# Altium schematic symbol library Virtex.SchLib: 67 symbols (part 2 of 2)
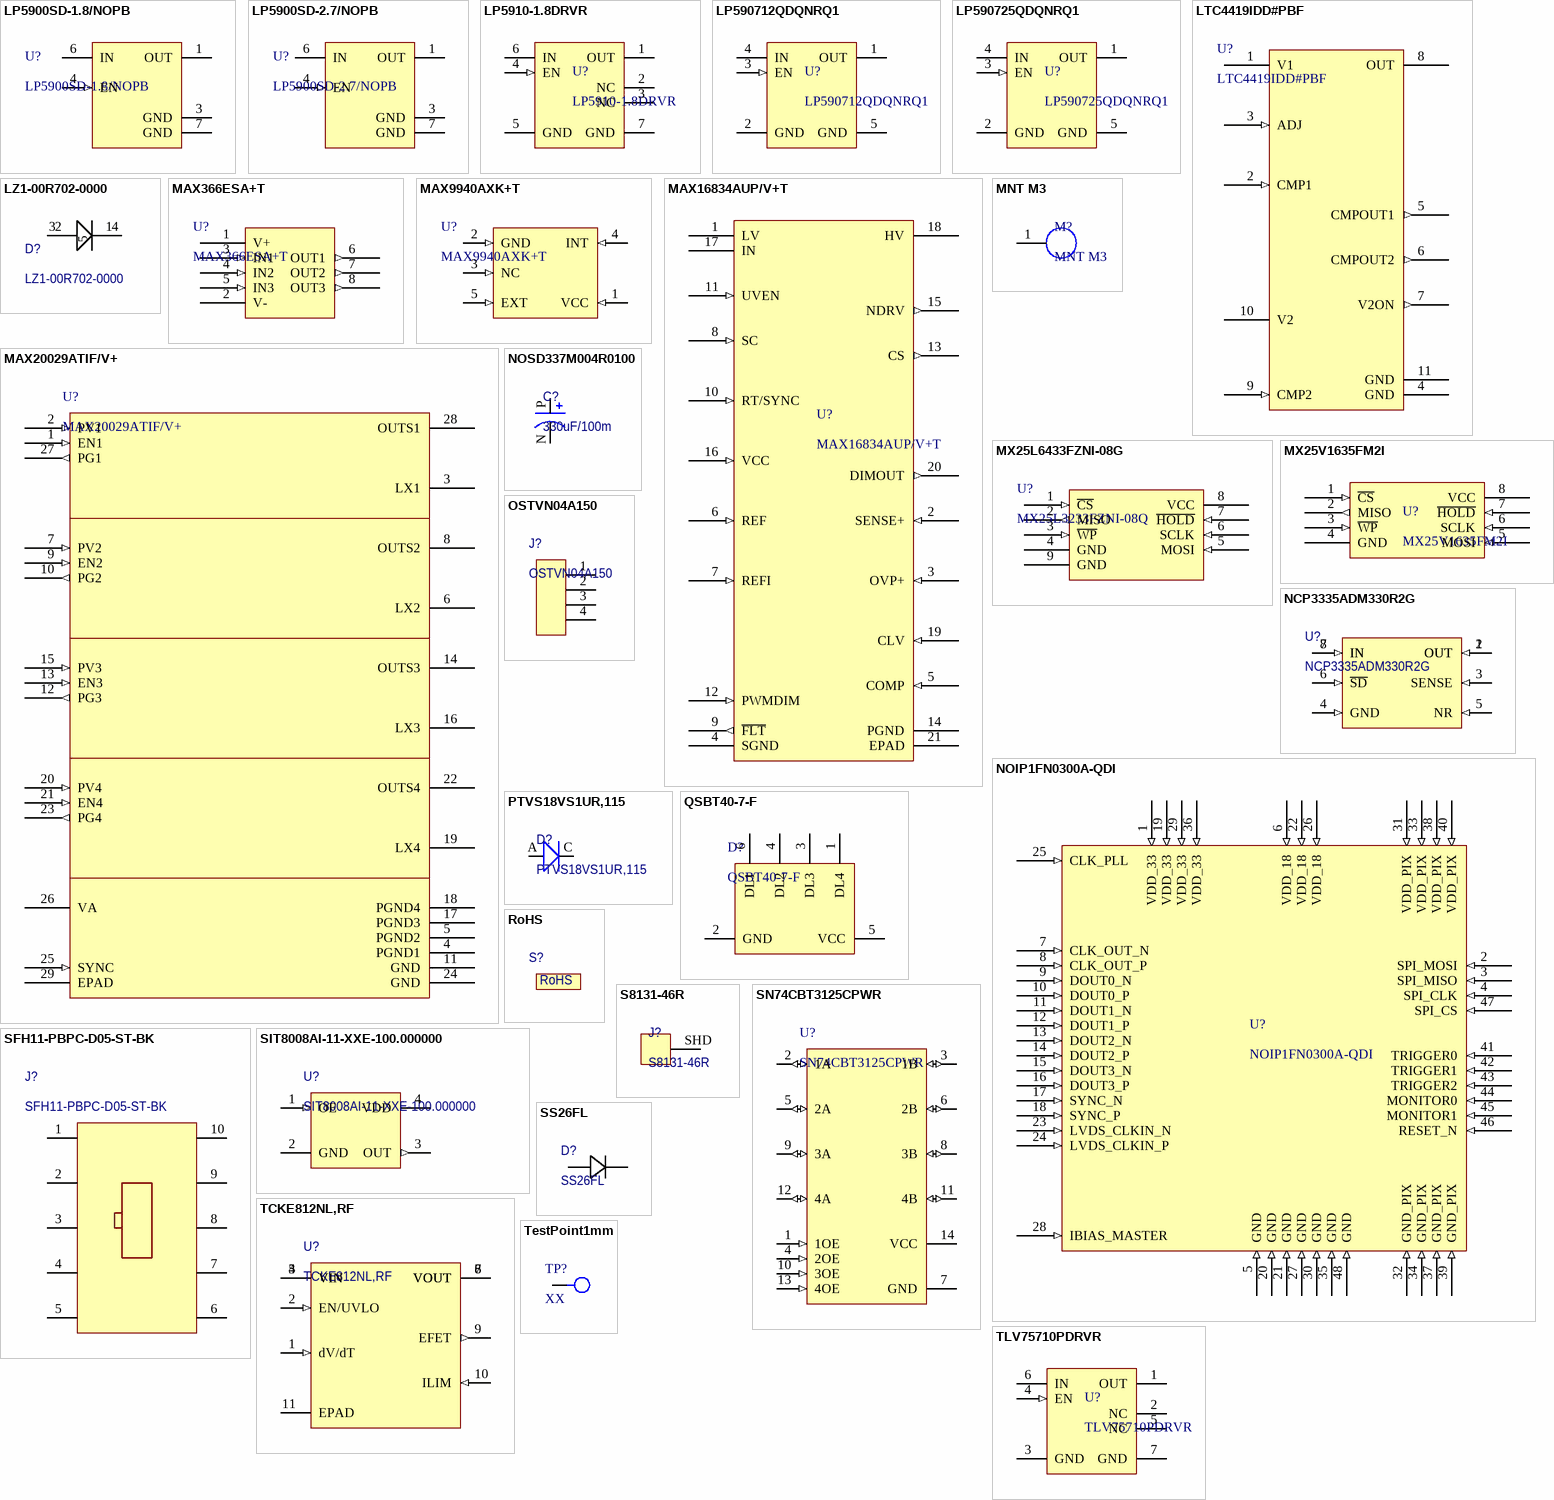
[diagram p3: symbols LP5900SD-1.8/NOPB to TLV75710PDRVR]

## MAX16834AUP/V+T
designator U?
IC LED DRVR HIGH BRIGHT 20-TSSOP; Manufacturer: Maxim; Manufacturer Part Number: MAX16834AUP+; Max Power Dissipation: 2.122W; Number of Segments: 100; Operating Supply Voltage: 28V; Number of Outputs: 1; Max Supply Current: 6mA; Topology: SEPIC; Frequency: 1MHz; Output Current: 3A; Min Input Voltage: 4.75V; Supplier 1: Digi-Key; RoHS: Yes; Category: LED Drivers; Stock 1: 756; Pricing 1: 1=6.28000, 10=5.67600, 25=5.41200, 100=4.69920, 250=4.48800, 500=4.09200, 1000=3.96000 (USD); Mount: Surface Mount; Case/Package: TSSOP; Number of Pins: 20; Contact Plating: Tin,Matte; Min Operating Temperature: -40°C; Max Operating Temperature: 125°C; Package Quantity: 74; Packaging: Rail/Tube; Power Dissipation: 2.122W; Series: -; Max Input Voltage: 28V; Switching Frequency: 1MHz; Radiation Hardening: No; RoHS Compliant: Yes; REACH SVHC: Unknown; ComponentLink1URL: https://datasheet.ciiva.com/1946/max16834-1946936.pdf?src-supplier=Digi-Key; ComponentLink1Description: https://datasheet.ciiva.com/1946/max16834-1946936.pdf?src-supplier=Digi-Key; ComponentLink2URL: https://datasheet.ciiva.com/17300/max16834-17300234.pdf?src-supplier=Avnet+Europe; ComponentLink2Description: https://datasheet.ciiva.com/17300/max16834-17300234.pdf?src-supplier=Avnet+Europe; Supplier Part Number 1: MAX16834AUP+-ND; Supplier 2: Avnet; Stock 2: 60000; Pricing 2: 2500=4.44310, 5000=4.38030, 10000=4.31750, 15000=4.25470, 20000=4.19190, 25000=4.12910, 250000=4.06630 (USD); ComponentLink3URL: https://datasheet.ciiva.com/12277/max16834-97839-12277202.pdf?src-supplier=Mouser; ComponentLink3Description: https://datasheet.ciiva.com/12277/max16834-97839-12277202.pdf?src-supplier=Mouser; ComponentLink4URL: https://datasheet.ciiva.com/3163/max16834-3163925.pdf?src-supplier=Avnet; ComponentLink4Description: https://datasheet.ciiva.com/3163/max16834-3163925.pdf?src-supplier=Avnet; ComponentLink5URL: https://datasheet.ciiva.com/1948/max16834-1948686.pdf?src-supplier=Digi-Key; ComponentLink5Description: https://datasheet.ciiva.com/1948/max16834-1948686.pdf?src-supplier=Digi-Key; Supplier Part Number 2: MAX16834AUP/V+T
footprint MAX16834AUPV+T
pins: 1 LV (power), 2 SENSE+ (in), 3 OVP+ (in), 4 SGND (power), 5 COMP (in), 6 REF (in), 7 REFI (in), 8 SC (in), 9 ~{FLT} (out), 10 RT/SYNC (in), 11 UVEN (in), 12 PWMDIM (in), 13 CS (out), 14 PGND (power), 15 NDRV (out), 16 VCC (in), 17 IN (power), 18 HV (power), 19 CLV (in), 20 DIMOUT (out), 21 EPAD (power)

## MAX20029ATIF/V+
designator U?
DC to DC Converter Quad Step-Down 3V to 5.5V Automotive 28-Pin TQFN Tube; Mfr_Name: Maxim Integrated Products; Manufacturer: Maxim; Copyright: Copyright (C) 2022 Ultra Librarian. All rights reserved.; Manufacturer_Part_Number: MAX20029ATIF/V+; RefDes: RefDes; Type: DEV; Supplier 1: Mouser; Manufacturer Part Number: MAX20029ATIF/V+; RoHS: Yes; Stock 1: 121; Pricing 1: 1=3.71000, 10=3.34000, 25=3.15000, 50=3.15000, 100=3.15000, 120=2.72000, 300=2.64000, 540=2.41000, 1000=2.41000, 1020=2.29000, 2520=2.25000, 10000=2.25000 (USD); Supplier Part Number 1: 700-MAX20029ATIF/V+
footprint MAX20029ATIF/V+
pins: 1 EN1 (in), 2 PV1 (in), 3 LX1 (power), 4 PGND1 (power), 5 PGND2 (power), 6 LX2 (power), 7 PV2 (in), 8 OUTS2 (power), 9 EN2 (in), 10 PG2 (out), 11 GND (power), 12 PG3 (out), 13 EN3 (in), 14 OUTS3 (power), 15 PV3 (in), 16 LX3 (power), 17 PGND3 (power), 18 PGND4 (power), 19 LX4 (power), 20 PV4 (in), 21 EN4 (in), 22 OUTS4 (power), 23 PG4 (out), 24 GND (power), 25 SYNC (in), 26 VA (power), 27 PG1 (out), 28 OUTS1 (power), 29 EPAD

## MNT M3
designator M?
Mounting hole for an M3 bolt
footprint MNT M3
pins: 1

## MX25L6433FZNI-08G
designator U?, comment MX25L3233FZNI-08Q
IC Flash Serial Nor 64MBIT 8WSON; Manufacturer: Macronix; Manufacturer Part Number: MX25L6433FZNI-08G; RoHS: Yes; Stock 1: 2606; Pricing 1: 1=0.75000, 10=0.68700, 25=0.67880, 40=0.67450, 80=0.60313, 230=0.59804, 570=0.58923, 1140=0.56814, 5130=0.51748 (USD); RoHS Compliant: No; Category: Memory; Supplier 1: Digi-Key; Supplier Part Number 1: MX25L6433FZNI-08G-ND
footprint MX25L6433FZNI-08G
pins: 1 ~{CS} (in), 2 MISO (out), 3 ~{WP} (in), 4 GND (power), 5 MOSI (in), 6 SCLK (in), 7 ~{HOLD} (in), 8 VCC (power), 9 GND (power)

## MX25V1635FM2I
designator U?
IC FLASH 16M SPI 80MHZ 8SOP; Manufacturer: Macronix; Memory Type: FLASH,NOR; Interface: SPI,Serial; Supplier 1: Digi-Key; Manufacturer Part Number: MX25V1635FM2I; RoHS: Yes; Category: Memory; Stock 1: 14366; Pricing 1: 1=0.71000, 10=0.64700, 25=0.63880, 50=0.63480, 100=0.56770, 250=0.56288, 500=0.55456, 1000=0.53472, 5000=0.48704 (USD); Case/Package: SOIC; Min Operating Temperature: -40°C; Max Operating Temperature: 85°C; Packaging: Rail/Tube; Frequency: 80MHz; Lead Free: Lead Free; RoHS Compliant: Yes; ComponentLink1URL: http://ckassoc.com/oldsite/pdf/Macronix_Product_Line_Card_July_2017_General%20_070617.pdf?src-supplier=Digi-Key; ComponentLink1Description: http://ckassoc.com/oldsite/pdf/Macronix_Product_Line_Card_July_2017_General%20_070617.pdf?src-supplier=Digi-Key; Supplier Part Number 1: 1092-1189-ND
footprint MX25V1635FM2I
pins: 1 ~{CS} (in), 2 MISO (out), 3 ~{WP} (in), 4 GND (power), 5 MOSI (in), 6 SCLK (in), 7 ~{HOLD} (in), 8 VCC (power)

## NCP3335ADM330R2G
designator U?
Linear Voltage Regulator, LDO, Ultra High Accuracy, Low Iq, 500 mA, V out : 3.3 V; Manufacturer: ON Semiconductor; Min Input Voltage: 2.6V; Max Input Voltage: 16V; Output Voltage: 3.3V; Number of Outputs: 1; Max Output Current: 800mA; Polarity: Positive; Accuracy: 0.9%; Output Type: Fixed; Dropout Voltage: 340mV; Reference Voltage: 1.269V; Supplier 1: Arrow Electronics; Manufacturer Part Number: NCP3335ADM330R2G; RoHS: Yes; Category: Voltage Regulators - Linear; Stock 1: 3509; Pricing 1: 1=1.27050, 10=1.10060, 25=0.93500, 100=0.82150, 250=0.81330, 500=0.66300, 1000=0.61180, 3000=0.57730 (USD); Mount: Surface Mount; Case/Package: MSOP; Number of Pins: 8; Min Operating Temperature: -40°C; Max Operating Temperature: 150°C; Package Quantity: 4000; Output Current: 800mA; Packaging: Tape and Reel; Number of Regulators: 1; Min Output Voltage: 3.3V; Output Voltage Accuracy: 0.9%; Length: 3.1mm; Width: 3.1mm; Height: 0.95mm; Radiation Hardening: No; Lead Free: Lead Free; Halogen Free: Halogen Free; RoHS Compliant: Yes; ComponentLink1URL: https://datasheet.ciiva.com/30476/0900766b8124f876-30476966.pdf?src-supplier=RSComponents; ComponentLink1Description: https://datasheet.ciiva.com/30476/0900766b8124f876-30476966.pdf?src-supplier=RSComponents; ComponentLink2URL: https://datasheet.ciiva.com/2061/ncp3335a-d-2061837.pdf?src-supplier=Digi-Key; ComponentLink2Description: https://datasheet.ciiva.com/2061/ncp3335a-d-2061837.pdf?src-supplier=Digi-Key; ComponentLink3URL: https://datasheet.ciiva.com/2061/ncp3335a-d-2061838.pdf?src-supplier=Digi-Key; ComponentLink3Description: https://datasheet.ciiva.com/2061/ncp3335a-d-2061838.pdf?src-supplier=Digi-Key; ComponentLink4URL: https://datasheet.ciiva.com/16390/ncp3335a-d-16390281.pdf?src-supplier=Future+Electronics; ComponentLink4Description: https://datasheet.ciiva.com/16390/ncp3335a-d-16390281.pdf?src-supplier=Future+Electronics; Supplier Part Number 1: NCP3335ADM330R2G
footprint NCP3335ADM330R2G
pins: 1 OUT (in), 2 OUT (in), 3 SENSE (in), 4 GND (in), 5 NR (in), 6 ~{SD} (in), 7 IN (in), 8 IN (in)

## NOIP1FN0300A-QDI
designator U?
IC IMAGE SENSOR 0.3MP 48LCC; Manufacturer: ON Semiconductor; Operating Supply Voltage: 3.4V; Supplier 1: Avnet; Manufacturer Part Number: NOIP1FN0300A-QDI; RoHS: Yes; Category: Optoelectronics; Pricing 1: 6=58.23675, 8=57.37875, 20=56.62800, 30=55.87725, 60=55.12650, 300=53.83950, 600=53.41050 (USD); Mount: Surface Mount; Case/Package: LCC; Number of Pins: 48; Min Operating Temperature: -40°C; Max Operating Temperature: 85°C; Lead Free: Lead Free; RoHS Compliant: Yes; ComponentLink1URL: http://www.onsemi.com/pub_link/Collateral/PB_NOIP1SN1300A-D.PDF?src-supplier=Digi-Key; ComponentLink1Description: http://www.onsemi.com/pub_link/Collateral/PB_NOIP1SN1300A-D.PDF?src-supplier=Digi-Key; ComponentLink2URL: http://www.onsemi.com/pub_link/Collateral/NOIP1SN1300A-D.PDF?src-supplier=Avnet+Asia; ComponentLink2Description: http://www.onsemi.com/pub_link/Collateral/NOIP1SN1300A-D.PDF?src-supplier=Avnet+Asia; Supplier Part Number 1: NOIP1FN0300A-QDI
footprint NOIP1FN0300A-QDI
pins: 1 VDD_33 (in), 2 SPI_MOSI (in), 3 SPI_MISO (in), 4 SPI_CLK (in), 5 GND (in), 6 VDD_18 (in), 7 CLK_OUT_N (in), 8 CLK_OUT_P (in), 9 DOUT0_N (in), 10 DOUT0_P (in), 11 DOUT1_N (in), 12 DOUT1_P (in), 13 DOUT2_N (in), 14 DOUT2_P (in), 15 DOUT3_N (in), 16 DOUT3_P (in), 17 SYNC_N (in), 18 SYNC_P (in), 19 VDD_33 (in), 20 GND (in), 21 GND (in), 22 VDD_18 (in), 23 LVDS_CLKIN_N (in), 24 LVDS_CLKIN_P (in), 25 CLK_PLL (in), 26 VDD_18 (in), 27 GND (in), 28 IBIAS_MASTER (in), 29 VDD_33 (in), 30 GND (in), 31 VDD_PIX (in), 32 GND_PIX (in), 33 VDD_PIX (in), 34 GND_PIX (in), 35 GND (in), 36 VDD_33 (in), 37 GND_PIX (in), 38 VDD_PIX (in), 39 GND_PIX (in), 40 VDD_PIX (in), 41 TRIGGER0 (in), 42 TRIGGER1 (in), 43 TRIGGER2 (in), 44 MONITOR0 (in), 45 MONITOR1 (in), 46 RESET_N (in), 47 SPI_CS (in), 48 GND (in)

## NOSD337M004R0100
designator C?, comment 330uF/100m
330uF +/-20% 4 V dc SMD Niobium Capacitor; 7343-31 package; ESR 0.1Ohms NOS; Manufacturer: Kyocera AVX; Manufacturer Part Number: NOSD337M004R0100; Dielectric Material: Tantalum; Voltage Rating: 4V; Tolerance: 20%; ESR (Equivalent Series Resistance): 100mR; Ripple Current: 1.342A; Dissipation Factor: 8%; Leakage Current: 26.4uA; Supplier 1: Arrow Electronics; RoHS: Yes; Category: Capacitors; Stock 1: 523; Pricing 1: 1=0.86820, 10=0.76450, 25=0.75680, 100=0.63080, 250=0.62450, 500=0.53480 (USD); Mount: Surface Mount; Case/Package: 2917; Case Code (Metric): 7343; Case Code (Imperial): 2917; Min Operating Temperature: -55°C; Max Operating Temperature: 125°C; Package Quantity: 500; Capacitance: 330uF; Packaging: Tape and Reel; Termination: SMD/SMT; Voltage: 4V; Series: NOS; Construction: Flat; Length: 7.3mm; Width: 4.3mm; Height: 2.9mm; Height - Seated (Max): 0.122inch; Depth: 4.3mm; Radiation Hardening: No; REACH SVHC: No SVHC; Lead Free: Lead Free; RoHS Compliant: Yes; ComponentLink1URL: https://datasheet.ciiva.com/257/nos-257040.pdf?src-supplier=Digi-Key; ComponentLink1Description: https://datasheet.ciiva.com/257/nos-257040.pdf?src-supplier=Digi-Key; ComponentLink2URL: https://datasheet.ciiva.com/11790/0900766b8070be5a-11790395.pdf?src-supplier=RSComponents; ComponentLink2Description: https://datasheet.ciiva.com/11790/0900766b8070be5a-11790395.pdf?src-supplier=RSComponents; ComponentLink3URL: https://datasheet.ciiva.com/257/nos-257041.pdf?src-supplier=Digi-Key; ComponentLink3Description: https://datasheet.ciiva.com/257/nos-257041.pdf?src-supplier=Digi-Key; ComponentLink4URL: https://datasheet.ciiva.com/257/nos-257042.pdf?src-supplier=Digi-Key; ComponentLink4Description: https://datasheet.ciiva.com/257/nos-257042.pdf?src-supplier=Digi-Key; ComponentLink5URL: https://datasheet.ciiva.com/2998/nos-2998262.pdf?src-supplier=Avnet; ComponentLink5Description: https://datasheet.ciiva.com/2998/nos-2998262.pdf?src-supplier=Avnet; ComponentLink6URL: https://datasheet.ciiva.com/29882/nos-29882333.pdf?src-supplier=Avnet; ComponentLink6Description: https://datasheet.ciiva.com/29882/nos-29882333.pdf?src-supplier=Avnet; ComponentLink7URL: https://datasheet.ciiva.com/1460/49917-1460418.pdf?src-supplier=Element14; ComponentLink7Description: https://datasheet.ciiva.com/1460/49917-1460418.pdf?src-supplier=Element14; ComponentLink8URL: https://datasheet.ciiva.com/1460/49917-1460419.pdf?src-supplier=Element14; ComponentLink8Description: https://datasheet.ciiva.com/1460/49917-1460419.pdf?src-supplier=Element14; Supplier Part Number 1: NOSD337M004R0100
footprint NOSD337M004R0100 (Molded Capacitor, 2-Leads, Body 7.30x4.35mm, IPC Medium Density)
pins: N, P

## OSTVN04A150
designator J?
TERM BLK 4P SIDE ENT 2.54MM PCB; Manufacturer: On-Shore Technology; Plating: Brass,Steel; Number of Levels: 1; Number of Positions Per Level: 4; Current: 6A; Voltage: 125V; Wire Gauge (Max): 30AWG; Wire Gauge (Min): 20AWG; Pitch: 0.1inch; Supplier 1: Digi-Key; Manufacturer Part Number: OSTVN04A150; RoHS: Yes; Category: Terminal Blocks; Stock 1: 9682; Pricing 1: 1=1.45000, 10=1.01800, 25=0.94920, 50=0.86140, 100=0.85760, 250=0.72420, 500=0.68608, 1000=0.60984, 5000=0.50820 (USD); Mount: Through Hole; Number of Pins: 4; Color: Green; Contact Plating: Brass; Housing Material: Thermoplastic; Min Operating Temperature: -30°C; Max Operating Temperature: 105°C; Packaging: Bulk; Termination: Screw; Series: OSTVN; RoHS Compliant: Yes; ComponentLink1URL: https://datasheet.ciiva.com/823/ostvnxxa150-823966.pdf?src-supplier=Digi-Key; ComponentLink1Description: https://datasheet.ciiva.com/823/ostvnxxa150-823966.pdf?src-supplier=Digi-Key; Supplier Part Number 1: ED10563-ND
footprint OSTVN04A150
pins: 1, 2, 3, 4

## PTVS18VS1UR,115
designator D?
TVS DIODE 18VWM 29.2VC SOD123W; Manufacturer: Nexperia; Supplier 1: RSComponents; Manufacturer Part Number: PTVS18VS1UR,115; RoHS: Yes; Category: TVS Diodes; Stock 1: 1; Pricing 1: 40=0.38200, 200=0.20700, 800=0.19500, 2000=0.16200 (USD); RoHS Compliant: Yes; Supplier Part Number 1: 8160208
footprint PTVS18VS1UR,115 (SODFL, 2-Leads, Body 1.70x3.50mm, IPC Medium Density)
pins: A (power), C (power)

## QSBT40-7-F
designator D?
TVS DIODE 30VWM SOT363; Manufacturer: Diodes; Forward Current: 200mA; Max Reverse Current: 2uA; Forward Voltage: 1V; Max Power Dissipation: 2W; Operating Supply Voltage: 30V; Number of Bidirectional Channels: 4; Power Line Protection: No; Reverse Recovery Time: 5ns; Peak Non-Repetitive Surge Current: 600mA; Power Dissipation: 200mW; Supplier 1: RSComponents; Manufacturer Part Number: QSBT40-7-F; RoHS: Yes; Category: Schottky Diodes; Stock 1: 1; Pricing 1: 10=1.12300, 30=0.92500, 150=0.80600, 750=0.71200, 1500=0.56500 (USD); Mount: Surface Mount; Case/Package: SOT-363; Number of Pins: 6; Weight: 0.000212oz; Min Operating Temperature: -55°C; Max Operating Temperature: 125°C; Package Quantity: 3000; Packaging: Tape and Reel; Reverse Standoff Voltage: 30V; Max Repetitive Reverse Voltage (Vrrm): 30V; Max Forward Surge Current (Ifsm): 600mA; Termination: SMD/SMT; Power Rating: 200mW; Voltage Rating (DC): 30V; Current Rating: 200mA; Series: -; Length: 2.2mm; Width: 1.35mm; Height: 1mm; Radiation Hardening: No; REACH SVHC: No SVHC; Lead Free: Lead Free; RoHS Compliant: Yes; ComponentLink1URL: https://datasheet.ciiva.com/34302/1541351-34302412.pdf?src-supplier=Jameco; ComponentLink1Description: https://datasheet.ciiva.com/34302/1541351-34302412.pdf?src-supplier=Jameco; ComponentLink2URL: https://datasheet.ciiva.com/4715/ds30195-18356-4715689.pdf?src-supplier=Mouser; ComponentLink2Description: https://datasheet.ciiva.com/4715/ds30195-18356-4715689.pdf?src-supplier=Mouser; ComponentLink3URL: https://datasheet.ciiva.com/336/ds30195-336560.pdf?src-supplier=Digi-Key; ComponentLink3Description: https://datasheet.ciiva.com/336/ds30195-336560.pdf?src-supplier=Digi-Key; ComponentLink4URL: https://datasheet.ciiva.com/8301/ds30195-8301644.pdf?src-supplier=Avnet; ComponentLink4Description: https://datasheet.ciiva.com/8301/ds30195-8301644.pdf?src-supplier=Avnet; ComponentLink5URL: https://datasheet.ciiva.com/16393/ds30195-16393583.pdf?src-supplier=Future+Electronics; ComponentLink5Description: https://datasheet.ciiva.com/16393/ds30195-16393583.pdf?src-supplier=Future+Electronics; Supplier Part Number 1: 7514698
footprint QSBT40-7-F
pins: 1 DL4, 2 GND (power), 3 DL3, 4 DL2, 5 VCC (power), 6 DL1

## RoHS
designator S?
footprint RoHS

## S8131-46R
designator J?
CBL CLIP C-TYPE SILVER SOLDER; Supplier 1: RSComponents; Supplier Part Number 1: 7884842P
footprint S8131-46R (Footprint not found)
pins: SHD

## SFH11-PBPC-D05-ST-BK
designator J?
Female, 10C, Straight .100"CC; No Mt. w/Center Polarizing Key; PBT, Brass, Gold Flash, 105 C; Manufacturer: Sullins; Number of Positions: 10; Connector Type: Header; Pitch: 0.1inch; Supplier 1: Digi-Key; Manufacturer Part Number: SFH11-PBPC-D05-ST-BK; RoHS: Yes; Category: Connectors; Stock 1: 44672; Pricing 1: 1=0.66000, 10=0.55300, 80=0.49700, 440=0.40661, 1000=0.36144, 5000=0.32630 (USD); Mount: Through Hole; Color: Black; Contact Plating: Gold; Package Quantity: 1; Number of Rows: 2; Packaging: Tray; Termination: Solder; Series: SFH11; Contact Type: Female Socket; Row Spacing: 0.1inch; Lead Free: Lead Free; RoHS Compliant: Yes; ComponentLink1URL: https://datasheet.ciiva.com/754/sfh11-pxxc-dxx-st-xx11160-c-754555.pdf?src-supplier=Digi-Key; ComponentLink1Description: https://datasheet.ciiva.com/754/sfh11-pxxc-dxx-st-xx11160-c-754555.pdf?src-supplier=Digi-Key; Supplier Part Number 1: S9194-ND
footprint SFH11-PBPC-D05-ST-BK (Footprint not found)
pins: 1, 2, 3, 4, 5, 6, 7, 8, 9, 10

## SIT8008AI-11-XXE-100.000000
designator U?
Oscillator MEMS 100MHz ±20ppm (Stability) 15pF HCMOS/LVCMOS 55% 2.5V/2.8V/3V/3.3V Medical 4-Pin QFN SMD T/R; Manufacturer: SiTime; Manufacturer Part Number: SIT8008AI-11-XXE-100.000000E; Max Supply Current: 4.5mA; Supplier 1: Avnet; RoHS: Yes; Category: Oscillators; Pricing 1: 1000=0.93600, 2000=0.91104, 4000=0.88608, 6000=0.86112, 8000=0.83616 (USD); Mount: Surface Mount; Case/Package: SMD/SMT; Min Operating Temperature: -40°C; Max Operating Temperature: 85°C; Packaging: Tape and Reel; Frequency: 100MHz; Frequency Stability: 20ppm; RoHS Compliant: Yes; ComponentLink1URL: https://media.digikey.com/pdf/Data%20Sheets/SiTime%20PDFs/New_Rev_FAQ.pdf?src-supplier=Digi-Key; ComponentLink1Description: https://media.digikey.com/pdf/Data%20Sheets/SiTime%20PDFs/New_Rev_FAQ.pdf?src-supplier=Digi-Key; Supplier Part Number 1: SIT8008AI-11-XXE-100.000000E
footprint SIT8008AI-11-XXE-100.000000
pins: 1 OE (in), 2 GND (power), 3 OUT (out), 4 VDD (power)

## SN74CBT3125CPWR
designator U?
5-V, 1: 1 (SPST), 4-channel FET bus switch with –2-V undershoot protection 14-TSSOP -40 to 85; Manufacturer: Texas Instruments; Nominal Supply Current: 3uA; Propagation Delay: 0.15ns; Min Supply Voltage: 4V; Operating Supply Voltage: 5V; Max Supply Voltage: 5.5V; Number of Elements: 4; On-State Resistance: 12R; High Level Output Current: -128mA; Low Level Output Current: 128mA; Turn-On Delay Time: 4.4ns; Supply Type: Single; Bandwidth: 200MHz; Output Current: 64mA; Supplier 1: Digi-Key; Manufacturer Part Number: SN74CBT3125CPWR; RoHS: Yes; Category: Decoders and Multiplexers; Stock 1: 615; Pricing 1: 1=0.71000, 10=0.62300, 25=0.58480, 100=0.47740, 250=0.44340, 500=0.37736, 1000=0.30189 (USD); Mount: Surface Mount; Case/Package: TSSOP; Number of Pins: 14; Weight: 0.002018oz; Contact Plating: Gold; Min Operating Temperature: -40°C; Max Operating Temperature: 85°C; Package Quantity: 1; Packaging: Tape and Reel; Number of Bits: 4; Quiescent Current: 3uA; Independent Circuits: 4; Number of Channels: 4; Number of Switches: 4; Series: 74CBT; Supply Current: 3uA; Technology: CMOS; Throw Configuration: SPST; Radiation Hardening: No; Lead Free: Lead Free; RoHS Compliant: Yes; ComponentLink1URL: https://datasheet.ciiva.com/15097/getdatasheetpartid-526189-15097058.pdf?src-supplier=Verical; ComponentLink1Description: https://datasheet.ciiva.com/15097/getdatasheetpartid-526189-15097058.pdf?src-supplier=Verical; ComponentLink2URL: https://datasheet.ciiva.com/1891/sn74cbt3125c-1891000.pdf?src-supplier=Digi-Key; ComponentLink2Description: https://datasheet.ciiva.com/1891/sn74cbt3125c-1891000.pdf?src-supplier=Digi-Key; ComponentLink3URL: https://datasheet.ciiva.com/1890/sn74cbt3125c-1890999.pdf?src-supplier=Digi-Key; ComponentLink3Description: https://datasheet.ciiva.com/1890/sn74cbt3125c-1890999.pdf?src-supplier=Digi-Key; ComponentLink4URL: https://datasheet.ciiva.com/1891/sn74cbt3125c-1891001.pdf?src-supplier=Digi-Key; ComponentLink4Description: https://datasheet.ciiva.com/1891/sn74cbt3125c-1891001.pdf?src-supplier=Digi-Key; ComponentLink5URL: https://datasheet.ciiva.com/3170/sn74cbt3125c-3170634.pdf?src-supplier=Avnet; ComponentLink5Description: https://datasheet.ciiva.com/3170/sn74cbt3125c-3170634.pdf?src-supplier=Avnet; Supplier Part Number 1: 296-SN74CBT3125CPWRCT-ND
footprint SN74CBT3125CPWR
pins: 1 1OE (in), 2 1A (io), 3 1B (io), 4 2OE (in), 5 2A (io), 6 2B (io), 7 GND (power), 8 3B (io), 9 3A (io), 10 3OE (in), 11 4B (io), 12 4A (io), 13 4OE (in), 14 VCC (power)

## SS26FL
designator D?
Diode Schottky Barrier Rectifier 60V 2A 2-Pin SOD-123F T/R; Manufacturer: ON Semiconductor / Fairchild; Reverse Recovery Time: 8.26ns; Element Configuration: Single; Max Forward Surge Current (Ifsm): 50A; Supplier 1: Arrow Electronics; Manufacturer Part Number: SS26FL; RoHS: Yes; Category: Rectifier Diodes; Stock 1: 288000; Pricing 1: 3000=0.09160, 6000=0.09070, 9000=0.07910, 12000=0.07830, 15000=0.07750, 24000=0.07030 (USD); Mount: Surface Mount; Case/Package: SOD; Weight: 0.0276g; Packaging: Tape and Reel; Average Rectified Current: 2A; Max Repetitive Reverse Voltage (Vrrm): 60V; Max Reverse Voltage (DC): 60V; RoHS Compliant: Yes; ComponentLink1URL: http://www.farnell.com/datasheets/2552652.pdf?src-supplier=Farnell; ComponentLink1Description: http://www.farnell.com/datasheets/2552652.pdf?src-supplier=Farnell; ComponentLink2URL: https://www.fairchildsemi.com/datasheets/SS/SS24FL.pdf?src-supplier=Digi-Key; ComponentLink2Description: https://www.fairchildsemi.com/datasheets/SS/SS24FL.pdf?src-supplier=Digi-Key; ComponentLink3URL: http://www.farnell.com/datasheets/2552652.pdf?src-supplier=Element14; ComponentLink3Description: http://www.farnell.com/datasheets/2552652.pdf?src-supplier=Element14; ComponentLink4URL: http://www.farnell.com/datasheets/2552652.pdf?src-supplier=Newark; ComponentLink4Description: http://www.farnell.com/datasheets/2552652.pdf?src-supplier=Newark; Supplier Part Number 1: SS26FL
footprint SS26FL (SODFL, 2-Leads, Body 1.73x3.60mm, IPC Medium Density)
pins: 1, 2

## TCKE812NL,RF
designator U?
5.1V Voltage Clmp Latch Type; Manufacturer: Toshiba; Manufacturer Part Number: TCKE812NLRF; Supplier 1: Digi-Key; RoHS: Yes; Supplier Part Number 1: 655L16112I2T-ND
footprint WSON10B_TOS
pins: 1 dV/dT (in), 2 EN/UVLO (in), 3 VIN (power), 4 VIN (power), 5 VIN (power), 6 VOUT (power), 7 VOUT (power), 8 VOUT (power), 9 EFET (out), 10 ILIM (in), 11 EPAD (power)

## TestPoint1mm
designator TP?, comment XX
Test Point 1mm Diameter
footprint TestPoint1mm
pins: 1

## TLV75710PDRVR
designator U?
1-A low-IQ small-size low-dropout (LDO) regulator 6-WSON -40 to 125; Manufacturer Part Number: LP5910-1.0DRVR; Manufacturer: Texas Instruments; Output Voltage: 1V; Output Current: 300mA; Number of Regulators: 1; Quiescent Current: 12uA; Dropout Voltage: 120mV; Output Type: Fixed; Output Configuration: Positive; Max Input Voltage: 5.5V; Max Supply Current: 40uA; Power Supply Rejection Ratio (PSRR): 52dB; RoHS: Yes; Stock 1: 2189; Pricing 1: 1=0.63000, 10=0.53700, 50=0.53700, 100=0.37200, 1000=0.24400, 10000=0.19500 (USD); Mount: Surface Mount; Min Operating Temperature: -40°C; Max Operating Temperature: 125°C; Packaging: Tape and Reel; Lead Free: Lead Free; RoHS Compliant: Yes; ComponentLink1URL: http://www.ti.com/lit/ds/symlink/lp5910.pdf?src-supplier=Digi-Key; ComponentLink1Description: http://www.ti.com/lit/ds/symlink/lp5910.pdf?src-supplier=Digi-Key; ComponentLink2URL: http://www.ti.com/general/docs/suppproductinfo.tsp?distId=10&amp;gotoUrl=http%3A%2F%2Fwww.ti.com%2Flit%2Fgpn%2Flp5910&src-supplier=Digi-Key; ComponentLink2Description: http://www.ti.com/general/docs/suppproductinfo.tsp?distId=10&amp;gotoUrl=http%3A%2F%2Fwww.ti.com%2Flit%2Fgpn%2Flp5910&src-supplier=Digi-Key; Category: Voltage Regulators - Linear; Stock 2: 1477; Pricing 2: 1=0.61000, 10=0.53900, 25=0.50600, 100=0.41300, 250=0.38360, 500=0.32648, 1000=0.26950 (USD); Min Output Voltage: 1V; ComponentLink3URL: http://www.ti.com/lit/ds/symlink/tlv757p.pdf?src-supplier=Digi-Key; ComponentLink3Description: http://www.ti.com/lit/ds/symlink/tlv757p.pdf?src-supplier=Digi-Key; Supplier 1: Digi-Key; Supplier Part Number 1: 296-50004-1-ND
footprint TLV75710PDRVR
pins: 1 OUT (power), 2 NC, 3 GND (power), 4 EN (in), 5 NC, 6 IN (power), 7 GND (power)

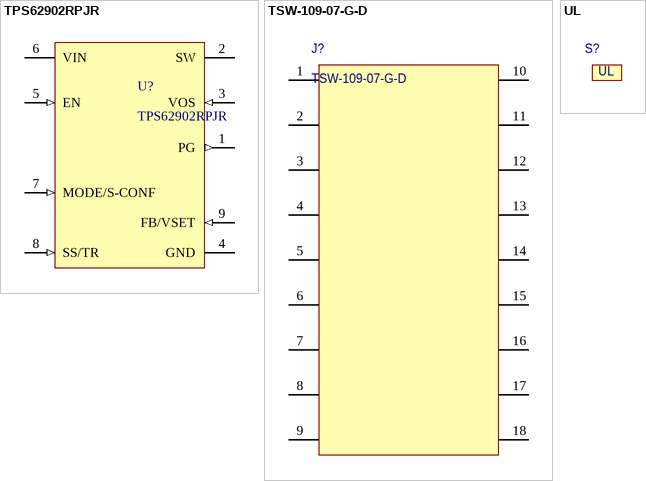
[diagram p2: symbols TPS62902RPJR to UL]

## TPS62902RPJR
designator U?
3-V to 17-V, 2-A, high-efficiency and low IQ buck converter 1.5-mm × 2-mm QFN package; Manufacturer: Texas Instruments; Supplier 1: Digi-Key; RoHS: Yes; Stock 1: 7457; Pricing 1: 1=1.81000, 10=1.62400, 25=1.53160, 100=1.30500, 250=1.22536, 500=1.07220, 1000=1.01150 (USD); Supplier Part Number 1: 296-TPS62902RPJRCT-ND; Manufacturer Part Number: TPS62902RPJR; Category: Voltage Regulators - Switching
footprint TPS62902RPJR
pins: 1 PG (out), 2 SW (power), 3 VOS (in), 4 GND (power), 5 EN (in), 6 VIN (power), 7 MODE/S-CONF (in), 8 SS/TR (in), 9 FB/VSET (in)

## TSW-109-07-G-D
designator J?
Conn Unshrouded Header HDR 18 POS 2.54mm Solder ST Thru-Hole; Manufacturer: Samtec; Number of Contacts: 18; Gender: Male; Max Current Rating: 7.6A; Max Voltage Rating (AC): 550V; Connector Type: Male Pin; Row Spacing: 0.1inch; Supplier 1: Digi-Key; Manufacturer Part Number: TSW-109-07-G-D; RoHS: Yes; Category: Connectors; Stock 1: 676; Pricing 1: 1=1.81000, 10=1.64100, 25=1.54000, 50=1.47320, 100=1.40620, 250=1.27224, 500=1.17180 (USD); Mount: Through Hole; Contact Plating: Gold; Contact Material: Bronze; Housing Color: Black; Housing Material: Polyester; Color: Black; Min Operating Temperature: -55°C; Max Operating Temperature: 125°C; Number of Rows: 2; Termination: Solder; Packaging: Bulk; Series: TSW; Orientation: Straight; Number of Positions: 18; Contact Type: Male Pin; Length: 22.86mm; Width: 5.08mm; Pitch: 2.54mm; Depth: 5.08mm; Contact Mating Length: 0.23inch; Radiation Hardening: No; RoHS Compliant: Yes; Lead Free: Lead Free; REACH SVHC: No SVHC; ComponentLink1URL: https://datasheet.ciiva.com/10198/htsw-th-10198345.pdf?src-supplier=Avnet; ComponentLink1Description: https://datasheet.ciiva.com/10198/htsw-th-10198345.pdf?src-supplier=Avnet; ComponentLink2URL: https://datasheet.ciiva.com/16701/htsw-th-16701221.pdf?src-supplier=Avnet+Europe; ComponentLink2Description: https://datasheet.ciiva.com/16701/htsw-th-16701221.pdf?src-supplier=Avnet+Europe; Supplier Part Number 1: SAM1028-09-ND
footprint TSW-109-07-G-D
pins: 1, 2, 3, 4, 5, 6, 7, 8, 9, 10, 11, 12, 13, 14, 15, 16, 17, 18

## UL
designator S?
footprint UL